# EAGLE library part ST72F324BJ6B6 (library ST_Microelctronics_By_element14_Batch_1)
8-bit MCU
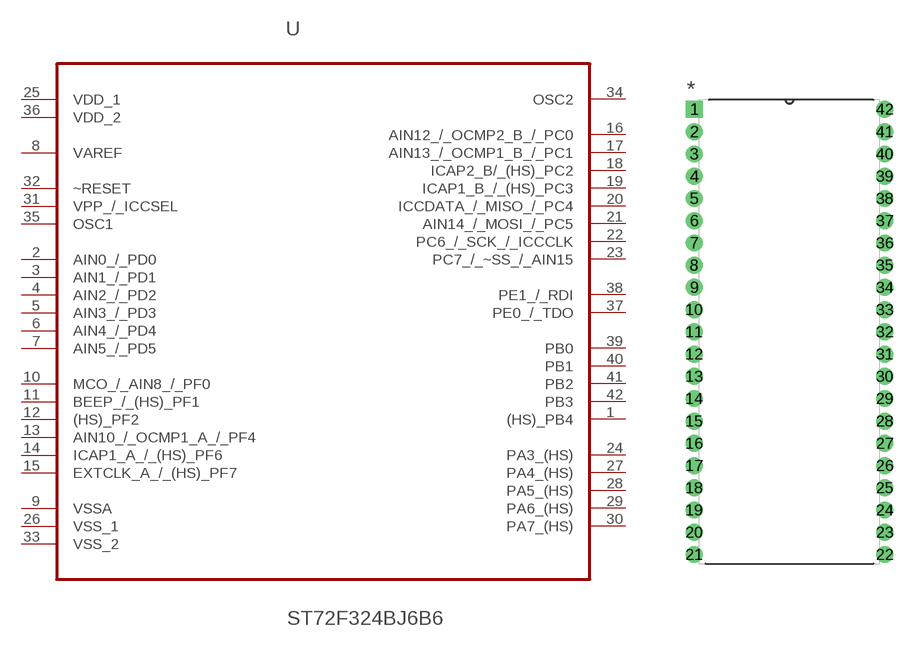
[diagram p311: symbol with the pads of DIP178P1524X508-42; footprint DIP178P1524X508-42]

Designator prefix U

## ST72F324BJ6B6 (MPN: ST72F324BJ6B6; OC_FARNELL: 1796096; OC_NEWARK: 57P3188; PACKAGE: DIP-42; SUPPLIER: STMICROELECTRONICS)  [DIP178P1524X508-42]
1  (HS)_PB4
2  AIN0_/_PD0
3  AIN1_/_PD1
4  AIN2_/_PD2
5  AIN3_/_PD3
6  AIN4_/_PD4
7  AIN5_/_PD5
8  VAREF  pwr
9  VSSA  pas
10  MCO_/_AIN8_/_PF0
11  BEEP_/_(HS)_PF1
12  (HS)_PF2
13  AIN10_/_OCMP1_A_/_PF4
14  ICAP1_A_/_(HS)_PF6
15  EXTCLK_A_/_(HS)_PF7
16  AIN12_/_OCMP2_B_/_PC0
17  AIN13_/_OCMP1_B_/_PC1
18  ICAP2_B/_(HS)_PC2
19  ICAP1_B_/_(HS)_PC3
20  ICCDATA_/_MISO_/_PC4
21  AIN14_/_MOSI_/_PC5
22  PC6_/_SCK_/_ICCCLK
23  PC7_/_~SS_/_AIN15
24  PA3_(HS)
25  VDD_1  pwr
26  VSS_1  pas
27  PA4_(HS)
28  PA5_(HS)
29  PA6_(HS)
30  PA7_(HS)
31  VPP_/_ICCSEL  in
32  ~RESET
33  VSS_2  pas
34  OSC2  out
35  OSC1  in
36  VDD_2  pwr
37  PE0_/_TDO
38  PE1_/_RDI
39  PB0
40  PB1
41  PB2
42  PB3

## Footprint DIP178P1524X508-42 (pad centres in mm)
drill 0.838 square: 1 -15.24,35.611
drill 0.838: 2 -15.24,33.807; 3 -15.24,32.029; 4 -15.24,30.251; 5 -15.24,28.473; 6 -15.24,26.695; 7 -15.24,24.917; 8 -15.24,23.139; 9 -15.24,21.361; 10 -15.24,19.583; 11 -15.24,17.805; 12 -15.24,16.027; 13 -15.24,14.249; 14 -15.24,12.471; 15 -15.24,10.668; 16 -15.24,8.89; 17 -15.24,7.112; 18 -15.24,5.334; 19 -15.24,3.556; 20 -15.24,1.778; 21 -15.24,0; 22 0,0; 23 0,1.778; 24 0,3.556; 25 0,5.334; 26 0,7.112; 27 0,8.89; 28 0,10.668; 29 0,12.471; 30 0,14.249; 31 0,16.027; 32 0,17.805; 33 0,19.583; 34 0,21.361; 35 0,23.139; 36 0,24.917; 37 0,26.695; 38 0,28.473; 39 0,30.251; 40 0,32.029; 41 0,33.807; 42 0,35.611